# Altium schematic symbol library WE-OLLT.SchLib: 21 symbols
Pins are listed as number, name and electrical type; pins without a type are passive.

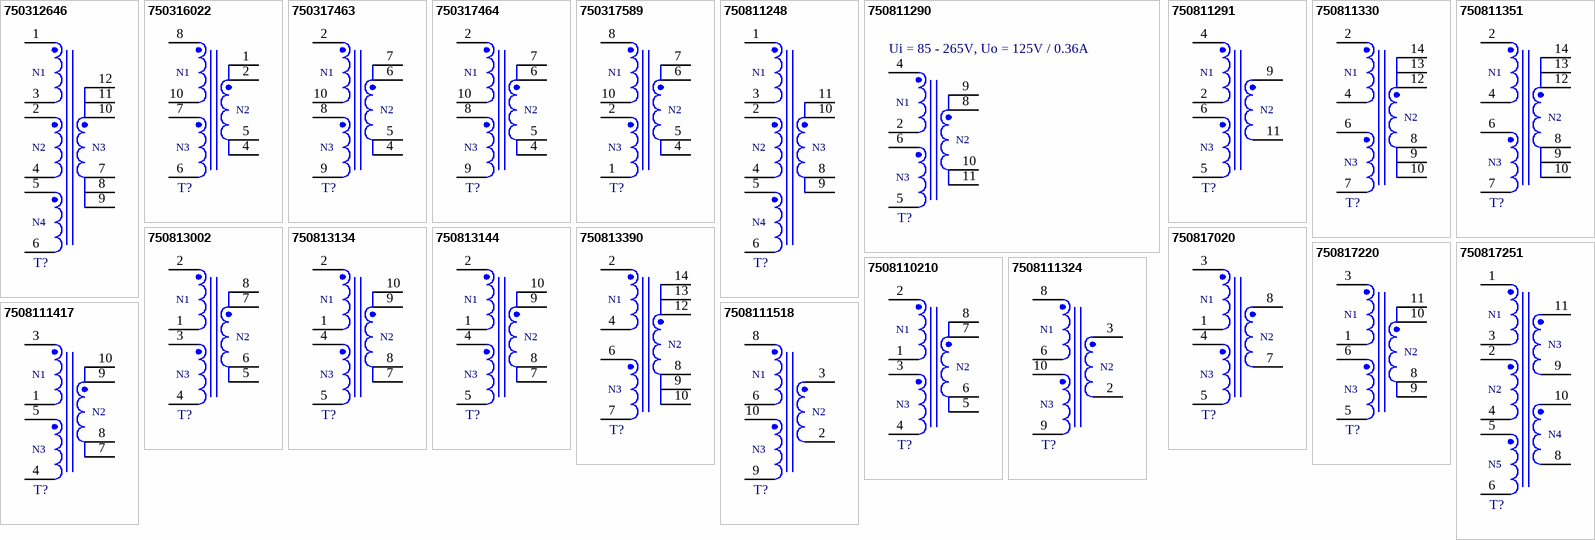
[diagram p0: symbols 750312646 to 7508111518]

## 750312646
designator T?, comment Ui = 85 - 304V, Uo = 33V / 2.5A  (value not drawn)
WE-OLLT Offline Flyback Transformer, THT, ER28/14, Ui = 85 - 304V, Uo = 33V / 2.5A; Manufacturer Part Number: 750312646; Manufacturer: Wurth Elektronik; Auxiliary Voltage: 22V; Inductance: 200uH; Input Voltage: 85 - 304V (AC); Insulation Test Voltage: 1500V (AC); Saturation Current: 6A; Switching Frequency: 70kHz; Category: Transformers For AC-DC Converter; Match Code: WE-OLLT; ComponentLink1Description: Website Link; ComponentLink1URL: https://www.we-online.com/redexpert/article/750312646?ad; ComponentLink2Description: Datasheet Link; ComponentLink2URL: https://www.we-online.com/redexpert/spec/750312646?ad; Mount: Through Hole; Operating Temperature Max: 125°C; Operating Temperature Min: -40°C; Packaging: Tray; Case/Size Code: ER28/14; Length: 31mm; Width: 31mm; Height: 25mm; Output Current: 2.5A; Output Voltage: 33V
footprint ER28/14_750312646
pins: 1, 2, 3, 4, 5, 6, 7, 8, 9, 10, 11, 12
text: N1; N2; N3; N4

## 750316022
designator T?, comment Ui = 99 - 269V, Uo = 5V / 1.6A  (value not drawn)
WE-OLLT Offline Flyback Transformer, SMT, EP13, Ui = 99 - 269V, Uo = 5V / 1.6A; Manufacturer Part Number: 750316022; Manufacturer: Wurth Elektronik; Auxiliary Voltage: 20V; Inductance: 3300uH; Input Voltage: 99 - 269V (AC); Insulation Test Voltage: 1500V (AC); Saturation Current: 0.36A; Switching Frequency: 100kHz; Category: Transformers For AC-DC Converter; Match Code: WE-OLLT; ComponentLink1Description: Website Link; ComponentLink1URL: https://www.we-online.com/redexpert/article/750316022?ad; ComponentLink2Description: Datasheet Link; ComponentLink2URL: https://www.we-online.com/redexpert/spec/750316022?ad; Mount: Surface Mount; Operating Temperature Max: 125°C; Operating Temperature Min: -40°C; Packaging: Tape and Reel; Case/Size Code: EP13; Length: 13.46mm; Width: 17.75mm; Height: 12.7mm; Output Current: 1.6A; Output Voltage: 5V
footprint EP13_750316022
pins: 1, 2, 4, 5, 6, 7, 8, 10
text: N1; N2; N3

## 750317463
designator T?, comment Ui = 57 - 424V, Uo = 12V / 4A  (value not drawn)
WE-OLLT Offline Flyback Transformer, THT, RM10, Ui = 57 - 424V, Uo = 12V / 4A; Manufacturer Part Number: 750317463; Manufacturer: Wurth Elektronik; Inductance: 440uH; Input Voltage: 57 - 424V (AC); Insulation Test Voltage: 3000V (AC); Saturation Current: 5.5A; Switching Frequency: 100kHz; Category: Transformers For AC-DC Converter; Match Code: WE-OLLT; ComponentLink1Description: Website Link; ComponentLink1URL: https://www.we-online.com/redexpert/article/750317463?ad; ComponentLink2Description: Datasheet Link; ComponentLink2URL: https://www.we-online.com/redexpert/spec/750317463?ad; Mount: Through Hole; Operating Temperature Max: 125°C; Operating Temperature Min: -40°C; Packaging: Tray; Case/Size Code: RM10; Length: 31.5mm; Width: 31.5mm; Height: 20.5mm; Auxiliary Voltage: 12V; Output Current: 4A; Output Voltage: 12V
footprint RM10_750317463
pins: 2, 4, 5, 6, 7, 8, 9, 10
text: N1; N2; N3

## 750317464
designator T?, comment Ui = 57 - 424V, Uo = 24V / 2A  (value not drawn)
WE-OLLT Offline Flyback Transformer, THT, RM10, Ui = 57 - 424V, Uo = 24V / 2A; Manufacturer Part Number: 750317464; Manufacturer: Wurth Elektronik; Auxiliary Voltage: 12V; Inductance: 440uH; Input Voltage: 57 - 424V (AC); Insulation Test Voltage: 3000V (AC); Saturation Current: 5.25A; Switching Frequency: 100kHz; Category: Transformers For AC-DC Converter; Match Code: WE-OLLT; ComponentLink1Description: Website Link; ComponentLink1URL: https://www.we-online.com/redexpert/article/750317464?ad; ComponentLink2Description: Datasheet Link; ComponentLink2URL: https://www.we-online.com/redexpert/spec/750317464?ad; Mount: Through Hole; Operating Temperature Max: 125°C; Operating Temperature Min: -40°C; Packaging: Tray; Case/Size Code: RM10; Length: 31.5mm; Width: 31.5mm; Height: 20.5mm; Output Current: 2A; Output Voltage: 24V
footprint RM10_750317464
pins: 2, 4, 5, 6, 7, 8, 9, 10
text: N1; N2; N3

## 750317589
designator T?, comment Ui = 71 - 424V, Uo = 12V / 3A  (value not drawn)
WE-OLLT Offline Flyback Transformer, THT, RM10, Ui = 71 - 424V, Uo = 12V / 3A; Manufacturer Part Number: 750317589; Manufacturer: Wurth Elektronik; Inductance: 670uH; Input Voltage: 71 - 424V (AC); Insulation Test Voltage: 3000V (AC); Switching Frequency: 140kHz; Category: Transformers For AC-DC Converter; Match Code: WE-OLLT; ComponentLink1Description: Website Link; ComponentLink1URL: https://www.we-online.com/redexpert/article/750317589?ad; ComponentLink2Description: Datasheet Link; ComponentLink2URL: https://www.we-online.com/redexpert/spec/750317589?ad; Mount: Through Hole; Operating Temperature Max: 125°C; Operating Temperature Min: -40°C; Packaging: Tray; Case/Size Code: RM10; Length: 31.5mm; Width: 31.5mm; Height: 20.5mm; Auxiliary Voltage: 12V; Output Current: 3A; Output Voltage: 12V; Saturation Current: 3A
footprint RM10_750317589
pins: 1, 2, 4, 5, 6, 7, 8, 10
text: N1; N2; N3

## 750811248
designator T?, comment Ui = 85 - 265V, Uo = 24V / 2A  (value not drawn)
WE-OLLT Offline Flyback Transformer, THT, ER28/14, Ui = 85 - 265V, Uo = 24V / 2A; Manufacturer Part Number: 750811248; Manufacturer: Wurth Elektronik; Inductance: 300uH; Input Voltage: 85 - 265V (AC); Insulation Test Voltage: 4500V (AC); Saturation Current: 3.5A; Switching Frequency: 60 - 400kHz; Category: Transformers For AC-DC Converter; Match Code: WE-OLLT; ComponentLink1Description: Website Link; ComponentLink1URL: https://www.we-online.com/redexpert/article/750811248?ad; ComponentLink2Description: Datasheet Link; ComponentLink2URL: https://www.we-online.com/redexpert/spec/750811248?ad; Mount: Through Hole; Operating Temperature Max: 125°C; Operating Temperature Min: -40°C; Packaging: Tray; Case/Size Code: ER28/14; Length: 31mm; Width: 31mm; Height: 25mm; Auxiliary Voltage: 24V; Output Current: 2A; Output Voltage: 24V
footprint ER28/14_750811248
pins: 1, 2, 3, 4, 5, 6, 8, 9, 10, 11
text: N1; N2; N3; N4

## 750811290
designator T?, comment Ui = 85 - 265V, Uo = 125V / 0.36A
WE-OLLT Offline Flyback Transformer, THT, ER28/14, Ui = 85 - 265V, Uo = 125V / 0.36A; Manufacturer Part Number: 750811290; Manufacturer: Wurth Elektronik; Auxiliary Voltage: 21.25V; Inductance: 461uH; Input Voltage: 85 - 265V (AC); Insulation Test Voltage: 4500V (AC); Saturation Current: 3.15A; Switching Frequency: 150kHz; Category: Transformers For AC-DC Converter; Match Code: WE-OLLT; ComponentLink1Description: Website Link; ComponentLink1URL: https://www.we-online.com/redexpert/article/750811290?ad; ComponentLink2Description: Datasheet Link; ComponentLink2URL: https://www.we-online.com/redexpert/spec/750811290?ad; Mount: Through Hole; Operating Temperature Max: 125°C; Operating Temperature Min: -40°C; Packaging: Tray; Case/Size Code: ER28/14; Length: 31mm; Width: 31mm; Height: 25mm; Output Current: 0.36A; Output Voltage: 125V
footprint ER28/14_750811290
pins: 2, 4, 5, 6, 8, 9, 10, 11
text: N1; N2; N3

## 750811291
designator T?, comment Ui = 85 - 265V, Uo = 85V / 0.4A  (value not drawn)
WE-OLLT Offline Flyback Transformer, THT, ER28/14, Ui = 85 - 265V, Uo = 85V / 0.4A; Manufacturer Part Number: 750811291; Manufacturer: Wurth Elektronik; Auxiliary Voltage: 20V; Inductance: 400uH; Input Voltage: 85 - 265V (AC); Insulation Test Voltage: 4500V (AC); Saturation Current: 5.7A; Switching Frequency: 60kHz; Category: Transformers For AC-DC Converter; Match Code: WE-OLLT; ComponentLink1Description: Website Link; ComponentLink1URL: https://www.we-online.com/redexpert/article/750811291?ad; ComponentLink2Description: Datasheet Link; ComponentLink2URL: https://www.we-online.com/redexpert/spec/750811291?ad; Mount: Through Hole; Operating Temperature Max: 125°C; Operating Temperature Min: -40°C; Packaging: Tray; Case/Size Code: ER28/14; Length: 31mm; Width: 31mm; Height: 25mm; Output Current: 0.4A; Output Voltage: 85V
footprint ER28/14_750811291
pins: 2, 4, 5, 6, 9, 11
text: N1; N2; N3

## 750811330
designator T?, comment Ui = 85 - 265V, Uo = 18V / 5A  (value not drawn)
WE-OLLT Offline Flyback Transformer, THT, ETD34, Ui = 85 - 265V, Uo = 18V / 5A; Manufacturer Part Number: 750811330; Manufacturer: Wurth Elektronik; Inductance: 300uH; Input Voltage: 85 - 265V (AC); Insulation Test Voltage: 4500V (AC); Saturation Current: 4A; Switching Frequency: 200kHz; Category: Transformers For AC-DC Converter; Match Code: WE-OLLT; ComponentLink1Description: Website Link; ComponentLink1URL: https://www.we-online.com/redexpert/article/750811330?ad; ComponentLink2Description: Datasheet Link; ComponentLink2URL: https://www.we-online.com/redexpert/spec/750811330?ad; Mount: Through Hole; Operating Temperature Max: 125°C; Operating Temperature Min: -40°C; Packaging: Tray; Case/Size Code: ETD34; Length: 39.6mm; Width: 43.18mm; Height: 30.48mm; Auxiliary Voltage: 18V; Output Current: 5A; Output Voltage: 18V
footprint ETD34_750811330
pins: 2, 4, 6, 7, 8, 9, 10, 12, 13, 14
text: N1; N2; N3

## 750811351
designator T?, comment Ui = 85 - 265V, Uo = 36V / 3A  (value not drawn)
WE-OLLT Offline Flyback Transformer, THT, ETD34, Ui = 85 - 265V, Uo = 36V / 3A; Manufacturer Part Number: 750811351; Manufacturer: Wurth Elektronik; Auxiliary Voltage: 25V; Inductance: 180uH; Input Voltage: 85 - 265V (AC); Insulation Test Voltage: 4500V (AC); Saturation Current: 7.4A; Switching Frequency: 75kHz; Category: Transformers For AC-DC Converter; Match Code: WE-OLLT; ComponentLink1Description: Website Link; ComponentLink1URL: https://www.we-online.com/redexpert/article/750811351?ad; ComponentLink2Description: Datasheet Link; ComponentLink2URL: https://www.we-online.com/redexpert/spec/750811351?ad; Mount: Through Hole; Operating Temperature Max: 125°C; Operating Temperature Min: -40°C; Packaging: Tray; Case/Size Code: ETD34; Length: 39.6mm; Width: 43.18mm; Height: 30.48mm; Output Current: 3A; Output Voltage: 36V
footprint ETD34_750811351
pins: 2, 4, 6, 7, 8, 9, 10, 12, 13, 14
text: N1; N2; N3

## 750813002
designator T?, comment Ui = 90 - 265V, Uo = 3.4V / 1A  (value not drawn)
WE-OLLT Offline Flyback Transformer, THT, EE13/6/6, Ui = 90 - 265V, Uo = 3.4V / 1A; Manufacturer Part Number: 750813002; Manufacturer: Wurth Elektronik; Auxiliary Voltage: 17V; Inductance: 2000uH; Input Voltage: 90 - 265V (AC); Insulation Test Voltage: 4500V (AC); Saturation Current: 0.35A; Switching Frequency: 100kHz; Category: Transformers For AC-DC Converter; Match Code: WE-OLLT; ComponentLink1Description: Website Link; ComponentLink1URL: https://www.we-online.com/redexpert/article/750813002?ad; ComponentLink2Description: Datasheet Link; ComponentLink2URL: https://www.we-online.com/redexpert/spec/750813002?ad; Mount: Through Hole; Operating Temperature Max: 125°C; Operating Temperature Min: -40°C; Packaging: Tray; Case/Size Code: EE13/6/6; Length: 15mm; Width: 15.75mm; Height: 18.5mm; Output Current: 1A; Output Voltage: 3.4V
footprint EE13/6/6_750813002
pins: 1, 2, 3, 4, 5, 6, 7, 8
text: N1; N2; N3

## 750813134
designator T?, comment Ui = 90 - 265V, Uo = 14V / 1A  (value not drawn)
WE-OLLT Offline Flyback Transformer, THT, EE16/7/5, Ui = 90 - 265V, Uo = 14V / 1A; Manufacturer Part Number: 750813134; Manufacturer: Wurth Elektronik; Auxiliary Voltage: 18V; Inductance: 600uH; Input Voltage: 90 - 265V (AC); Insulation Test Voltage: 4500V (AC); Saturation Current: 1.75A; Switching Frequency: 100kHz; Category: Transformers For AC-DC Converter; Match Code: WE-OLLT; ComponentLink1Description: Website Link; ComponentLink1URL: https://www.we-online.com/redexpert/article/750813134?ad; ComponentLink2Description: Datasheet Link; ComponentLink2URL: https://www.we-online.com/redexpert/spec/750813134?ad; Mount: Through Hole; Operating Temperature Max: 125°C; Operating Temperature Min: -40°C; Packaging: Tray; Case/Size Code: EE16/7/5; Length: 18mm; Width: 16.5mm; Height: 18mm; Output Current: 1A; Output Voltage: 14V
footprint EE16/7/5_750813134
pins: 1, 2, 4, 5, 7, 8, 9, 10
text: N1; N2; N3

## 750813144
designator T?, comment Ui = 85 - 265V, Uo = 28V / 0.5A  (value not drawn)
WE-OLLT Offline Flyback Transformer, THT, EE16/7/5, Ui = 85 - 265V, Uo = 28V / 0.5A; Manufacturer Part Number: 750813144; Manufacturer: Wurth Elektronik; Auxiliary Voltage: 20V; Inductance: 600uH; Input Voltage: 85 - 265V (AC); Insulation Test Voltage: 4500V (AC); Saturation Current: 1.75A; Switching Frequency: 100kHz; Category: Transformers For AC-DC Converter; Match Code: WE-OLLT; ComponentLink1Description: Website Link; ComponentLink1URL: https://www.we-online.com/redexpert/article/750813144?ad; ComponentLink2Description: Datasheet Link; ComponentLink2URL: https://www.we-online.com/redexpert/spec/750813144?ad; Mount: Through Hole; Operating Temperature Max: 125°C; Operating Temperature Min: -40°C; Packaging: Tray; Case/Size Code: EE16/7/5; Length: 18.5mm; Width: 16.5mm; Height: 18.8mm; Output Current: 0.5A; Output Voltage: 28V
footprint EE16/7/5_750813144
pins: 1, 2, 4, 5, 7, 8, 9, 10
text: N1; N2; N3

## 750813390
designator T?, comment Ui = 85 - 265V, Uo = 90V / 1A  (value not drawn)
WE-OLLT Offline Flyback Transformer, THT, ETD34, Ui = 85 - 265V, Uo = 90V / 1A; Manufacturer Part Number: 750813390; Manufacturer: Wurth Elektronik; Auxiliary Voltage: 19.8V; Inductance: 100uH; Input Voltage: 85 - 265V (AC); Insulation Test Voltage: 4500V (AC); Saturation Current: 9A; Switching Frequency: 75kHz; Category: Transformers For AC-DC Converter; Match Code: WE-OLLT; ComponentLink1Description: Website Link; ComponentLink1URL: https://www.we-online.com/redexpert/article/750813390?ad; ComponentLink2Description: Datasheet Link; ComponentLink2URL: https://www.we-online.com/redexpert/spec/750813390?ad; Mount: Through Hole; Operating Temperature Max: 125°C; Operating Temperature Min: -40°C; Packaging: Tray; Case/Size Code: ETD34; Length: 39.6mm; Width: 43.18mm; Height: 30.48mm; Output Current: 1A; Output Voltage: 90V
footprint ETD34_750813390
pins: 2, 4, 6, 7, 8, 9, 10, 12, 13, 14
text: N1; N2; N3

## 750817020
designator T?, comment Ui = 141 - 318V, Uo = 10V / 0.15A  (value not drawn)
WE-OLLT Offline Flyback Transformer, THT, EE13/6/6, Ui = 141 - 318V, Uo = 10V / 0.15A; Manufacturer Part Number: 750817020; Manufacturer: Wurth Elektronik; Auxiliary Voltage: 12V; Inductance: 4000uH; Input Voltage: 141 - 318V (AC); Insulation Test Voltage: 4600V (AC); Saturation Current: 0.34A; Switching Frequency: 150kHz; Category: Transformers For AC-DC Converter; Match Code: WE-OLLT; ComponentLink1Description: Website Link; ComponentLink1URL: https://www.we-online.com/redexpert/article/750817020?ad; ComponentLink2Description: Datasheet Link; ComponentLink2URL: https://www.we-online.com/redexpert/spec/750817020?ad; Mount: Through Hole; Operating Temperature Max: 125°C; Operating Temperature Min: -40°C; Packaging: Tray; Case/Size Code: EE13/6/6; Length: 15mm; Width: 15.75mm; Height: 18.5mm; Output Current: 0.15A; Output Voltage: 10V
footprint EE13/6/6_750817020
pins: 1, 3, 4, 5, 7, 8
text: N1; N2; N3

## 750817220
designator T?, comment Ui = 90 - 650V, Uo = 8V / 3A  (value not drawn)
WE-OLLT Offline Flyback Transformer, THT, ER28/14, Ui = 90 - 650V, Uo = 8V / 3A; Manufacturer Part Number: 750817220; Manufacturer: Wurth Elektronik; Auxiliary Voltage: 28V; Inductance: 1000uH; Input Voltage: 90 - 650V (AC); Insulation Test Voltage: 5500V (AC); Saturation Current: 3.2A; Switching Frequency: 60kHz; Category: Transformers For AC-DC Converter; Match Code: WE-OLLT; ComponentLink1Description: Website Link; ComponentLink1URL: https://www.we-online.com/redexpert/article/750817220?ad; ComponentLink2Description: Datasheet Link; ComponentLink2URL: https://www.we-online.com/redexpert/spec/750817220?ad; Mount: Through Hole; Operating Temperature Max: 125°C; Operating Temperature Min: -40°C; Packaging: Tray; Case/Size Code: ER28/14; Length: 31mm; Width: 31mm; Height: 25mm; Output Current: 3A; Output Voltage: 8V
footprint ER28/14_750817220
pins: 1, 3, 5, 6, 8, 9, 10, 11
text: N1; N2; N3

## 750817251
designator T?, comment Ui = 85 - 305V, Uo = 48V / 1A  (value not drawn)
WE-OLLT Offline Flyback Transformer, THT, ER28/14, Ui = 85 - 305V, Uo = 48V / 1A; Manufacturer Part Number: 750817251; Manufacturer: Wurth Elektronik; Auxiliary Voltage: 24V; Inductance: 250uH; Input Voltage: 85 - 305V (AC); Insulation Test Voltage: 4500V (AC); Saturation Current: 4.5A; Switching Frequency: 60kHz; Category: Transformers For AC-DC Converter; Match Code: WE-OLLT; ComponentLink1Description: Website Link; ComponentLink1URL: https://www.we-online.com/redexpert/article/750817251?ad; ComponentLink2Description: Datasheet Link; ComponentLink2URL: https://www.we-online.com/redexpert/spec/750817251?ad; Mount: Through Hole; Operating Temperature Max: 125°C; Operating Temperature Min: -40°C; Packaging: Tray; Case/Size Code: ER28/14; Length: 31mm; Width: 31mm; Height: 25mm; Output Current: 1A; Output Voltage: 48V
footprint ER28/14_750817251
pins: 1, 2, 3, 4, 5, 6, 8, 9, 10, 11
text: N1; N3; N2; N4; N5

## 7508110210
designator T?, comment Ui = 85 - 141V, Uo = 11V / 0.35A  (value not drawn)
WE-OLLT Offline Flyback Transformer, THT, EE13/6/6, Ui = 85 - 141V, Uo = 11V / 0.35A; Manufacturer Part Number: 7508110210; Manufacturer: Wurth Elektronik; Auxiliary Voltage: 15V; Inductance: 2000uH; Input Voltage: 85 - 141V (AC); Insulation Test Voltage: 4500V (AC); Saturation Current: 0.27A; Switching Frequency: 100kHz; Category: Transformers For AC-DC Converter; Match Code: WE-OLLT; ComponentLink1Description: Website Link; ComponentLink1URL: https://www.we-online.com/redexpert/article/7508110210?ad; ComponentLink2Description: Datasheet Link; ComponentLink2URL: https://www.we-online.com/redexpert/spec/7508110210?ad; Mount: Through Hole; Operating Temperature Max: 125°C; Operating Temperature Min: -40°C; Packaging: Tray; Case/Size Code: EE13/6/6; Length: 15mm; Width: 15.75mm; Height: 18.5mm; Output Current: 0.35A; Output Voltage: 11V
footprint EE13/6/6_7508110210
pins: 1, 2, 3, 4, 5, 6, 7, 8
text: N1; N2; N3

## 7508111324
designator T?, comment Ui = 99 - 269V, Uo = 12V / 1A  (value not drawn)
WE-OLLT Offline Flyback Transformer, THT, EE20/10/6, Ui = 99 - 269V, Uo = 12V / 1A; Manufacturer Part Number: 7508111324; Manufacturer: Wurth Elektronik; Inductance: 2750uH; Input Voltage: 99 - 269V (AC); Insulation Test Voltage: 4000V (AC); Saturation Current: 0.5A; Switching Frequency: 50kHz; Category: Transformers For AC-DC Converter; Match Code: WE-OLLT; ComponentLink1Description: Website Link; ComponentLink1URL: https://www.we-online.com/redexpert/article/7508111324?ad; ComponentLink2Description: Datasheet Link; ComponentLink2URL: https://www.we-online.com/redexpert/spec/7508111324?ad; Mount: Through Hole; Operating Temperature Max: 125°C; Operating Temperature Min: -40°C; Packaging: Tray; Case/Size Code: EE20/10/6; Length: 22.25mm; Width: 14.6mm; Height: 23.24mm; Auxiliary Voltage: 12V; Output Current: 1A; Output Voltage: 12V
footprint EE20/10/6_7508111324
pins: 2, 3, 6, 8, 9, 10
text: N1; N2; N3

## 7508111417
designator T?, comment Ui = 90 - 265V, Uo = 28V / 0.5A  (value not drawn)
WE-OLLT Offline Flyback Transformer, THT, EE20/10/6, Ui = 90 - 265V, Uo = 28V / 0.5A; Manufacturer Part Number: 7508111417; Manufacturer: Wurth Elektronik; Auxiliary Voltage: 24V; Inductance: 700uH; Input Voltage: 90 - 265V (AC); Insulation Test Voltage: 4500V (AC); Saturation Current: 1.5A; Switching Frequency: 100kHz; Category: Transformers For AC-DC Converter; Match Code: WE-OLLT; ComponentLink1Description: Website Link; ComponentLink1URL: https://www.we-online.com/redexpert/article/7508111417?ad; ComponentLink2Description: Datasheet Link; ComponentLink2URL: https://www.we-online.com/redexpert/spec/7508111417?ad; Mount: Through Hole; Operating Temperature Max: 125°C; Operating Temperature Min: -40°C; Packaging: Tray; Case/Size Code: EE20/10/6; Length: 22.25mm; Width: 14.6mm; Height: 23.24mm; Output Current: 0.5A; Output Voltage: 28V
footprint EE20/10/6_7508111417
pins: 1, 3, 4, 5, 7, 8, 9, 10
text: N1; N2; N3

## 7508111518
designator T?, comment Ui = 99 - 269V, Uo = 48V / 0.3A  (value not drawn)
WE-OLLT Offline Flyback Transformer, THT, EE20/10/6, Ui = 99 - 269V, Uo = 48V / 0.3A; Manufacturer Part Number: 7508111518; Manufacturer: Wurth Elektronik; Auxiliary Voltage: 12V; Inductance: 2400uH; Input Voltage: 99 - 269V (AC); Insulation Test Voltage: 4000V (AC); Saturation Current: 0.49A; Switching Frequency: 50kHz; Category: Transformers For AC-DC Converter; Match Code: WE-OLLT; ComponentLink1Description: Website Link; ComponentLink1URL: https://www.we-online.com/redexpert/article/7508111518?ad; ComponentLink2Description: Datasheet Link; ComponentLink2URL: https://www.we-online.com/redexpert/spec/7508111518?ad; Mount: Through Hole; Operating Temperature Max: 125°C; Operating Temperature Min: -40°C; Packaging: Tray; Case/Size Code: EE20/10/6; Length: 22.25mm; Width: 14.6mm; Height: 23.24mm; Output Current: 0.3A; Output Voltage: 48V
footprint EE20/10/6_7508111518
pins: 2, 3, 6, 8, 9, 10
text: N1; N2; N3